# Altium footprint library B320A_B360A.PcbLib: 1 footprints
Each footprint in its own frame and in the unit in brackets; x right, y up, seen from the top. Pads: shape width x height; smd on the part's side, far side on the other; paste and mask are expansions set on the pad; w line width, h text height; cw(c..) or ccw(c..) is an arc to the next point about the centre after c.
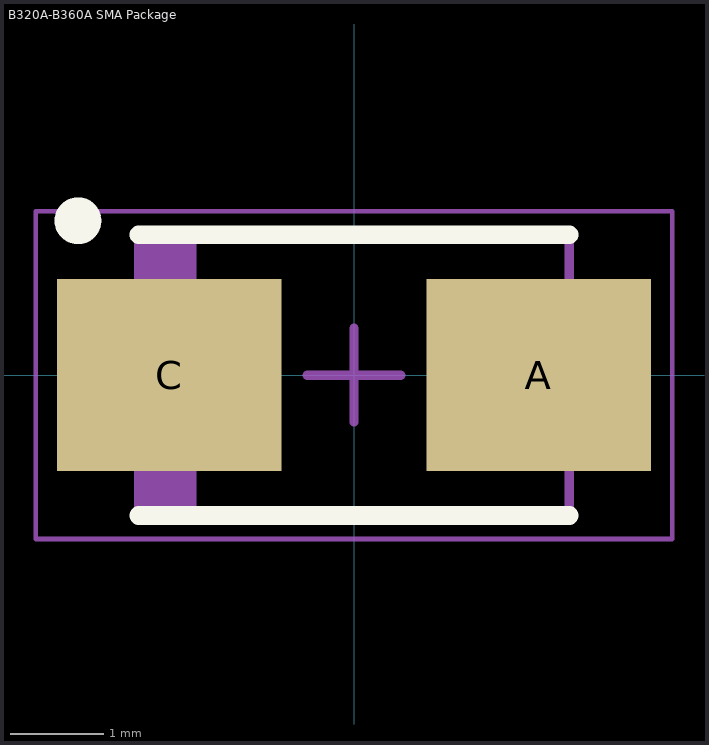
[diagram p0: the footprint, top view; thin cyan lines are the x and y axes]

## B320A-B360A SMA Package [mm] "http://www.diodes.com/datasheets/ap02002.pdf"
height 2.4
pads (2):
  rect 2.4x2.05 smd: A(1.975,0) C(-1.975,0)
Top Overlay:
  circle w0.25: c-2.95,1.65 r0.125
  lines w0.2: -2.3,-1.5 2.3,-1.5 ; -2.3,1.5 2.3,1.5
Mechanical 13:
  rectangle: -2.3,-1.46 -1.681,1.46
  lines w0.1: -2.3,-1.46 2.3,-1.46 2.3,1.46 -2.3,1.46 -2.3,-1.46
Mechanical 15:
  lines w0.05: -3.4,-1.75 3.4,-1.75 3.4,1.75 -3.4,1.75 -3.4,-1.75
  lines w0.1: -0.5,0 0.5,0 ; 0,-0.5 0,0.5
3D body "B320A-B360A SMA Package.step": height 2.4, standoff 0, extent -2.52,-1.46 2.52,1.46